# EAGLE library part SN65HVD235 (library texas_instruments)
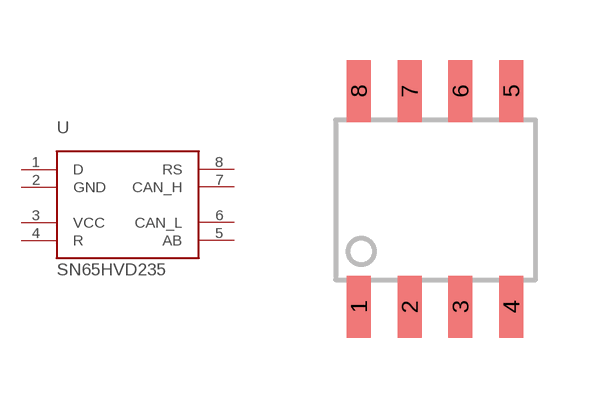
[diagram p2: symbol with the pads of SOIC_D_8; footprint SOIC_D_8]

Designator prefix -

## SN65HVD235  [SOIC_D_8]
1  D
2  GND
3  VCC
4  R
5  AB
6  CAN_L
7  CAN_H
8  RS

## Footprint SOIC_D_8 (pad centres in mm)
smd 0.6 x 1.55: 1 0,0; 2 1.27,0; 3 2.54,0; 4 3.81,0; 5 3.81,5.4; 6 2.54,5.4; 7 1.27,5.4; 8 0,5.4